# Altium schematic symbol library 1722861102.SchLib: 1 symbol
Pins are listed as number, name and electrical type; pins without a type are passive.

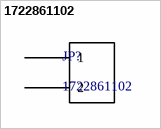
[diagram p0: symbol 1722861102]

## 1722861102
designator JP?
Manufacturer: Molex; PartDescription: CONN HEADER VERT 2POS 3.5MM; Package Type: 2 TH; Supplier 1: Digi-Key; Supplier Part Number 1: WM11570-ND; PartNumber: 1722861102
footprint 1722861102
pins: 1, 2